# Altium schematic symbol library Led White.Schlib: 1 symbol
Pins are listed as number, name and electrical type; pins without a type are passive.

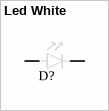
[diagram p0: symbol Led White]

## Led White
designator D?  (value not drawn)
footprint 0805 (2012)
footprint 1206 (3218)
pins: 1, 2